# Altium footprint library QUTMS_SwitchLibrary.PcbLib: 6 footprints
Each footprint in its own frame and in the unit in brackets; x right, y up, seen from the top. Pads: shape width x height; smd on the part's side, far side on the other; paste and mask are expansions set on the pad; w line width, h text height; cw(c..) or ccw(c..) is an arc to the next point about the centre after c.
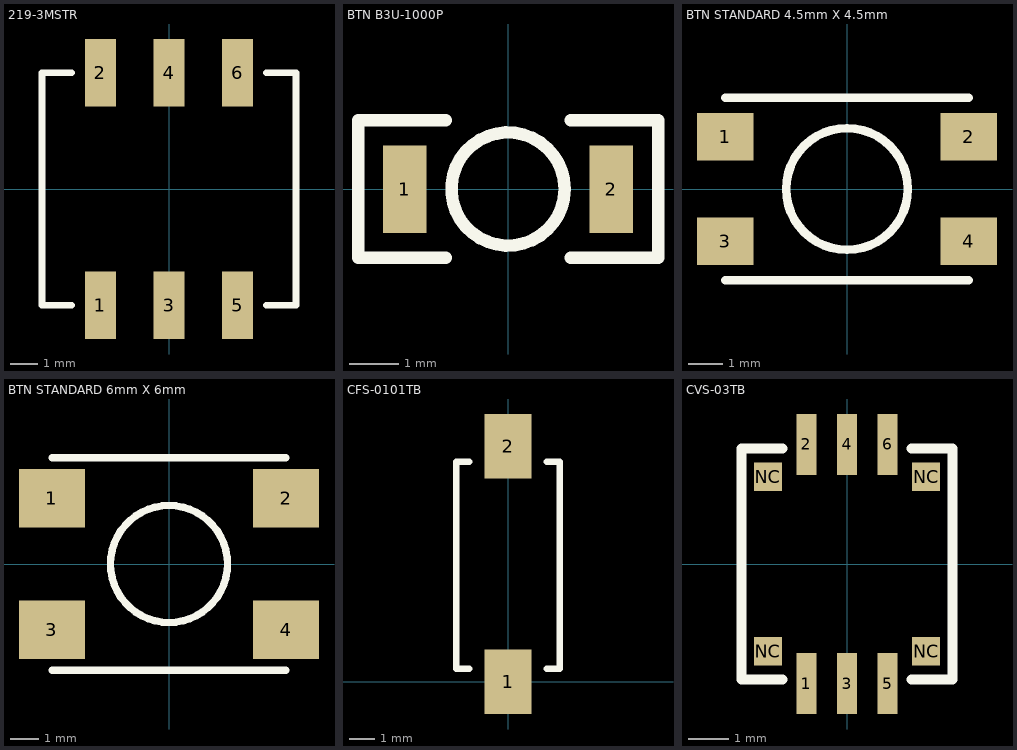
[diagram p0: the footprints below, top view; thin cyan lines are the x and y axes]

## 219-3MSTR [mm]
pads (6):
  rect 1.15x2.5 smd: 1(-2.54,-4.3) 2(-2.54,4.3) 3(0,-4.3) 4(0,4.3) 5(2.54,-4.3) 6(2.54,4.3)
Top Overlay:
  lines w0.254: -3.6,-4.3 -4.7,-4.3 -4.7,4.3 -3.6,4.3 ; 3.6,-4.3 4.7,-4.3 4.7,4.3 3.6,4.3
3D body "219-3poles.stp": height 4.28, standoff -0.02, extent -4.545,-4.955 4.545,4.955

## BTN B3U-1000P [mil] "OMRON B3U-1000P"
pads (2):
  rect 35x70 smd: 1(-82.68,0) 2(82.68,0)
Top Overlay:
  circle w10: c0,0 r45.28
  lines w10: -50,-55 -120,-55 -120,55 -50,55 ; 50,-55 120,-55 120,55 50,55
3D body "B3U_1000P.step": height 62.99, standoff 0, extent -78.74,-49.21 78.74,49.22

## BTN STANDARD 4.5mm X 4.5mm [mil]
pads (4):
  rect 65x55 smd: 1(-140,60) 2(140,60) 3(-140,-60) 4(140,-60)
Top Overlay:
  circle w10: c0,0 r70
  lines w10: -140,-105 140,-105 ; -140,105 140,105
3D body "Tact Switch 4.5mm SMT.step": height 165.35, standoff 0, extent -147.64,-88.58 147.64,88.59

## BTN STANDARD 6mm X 6mm [mil]
pads (4):
  rect 90x80 smd: 1(-160,90) 2(160,90) 3(-160,-90) 4(160,-90)
Top Overlay:
  circle w10: c0,0 r80
  lines w10: -160,-145 160,-145 ; -160,145 160,145
3D body "Tactal Switch - SMD (6mmx 6mmx 5mm) - Marked.stp": height 196.85, standoff 0, extent -177.5,-118.75 177.5,118.75

## CFS-0101TB [mm]
pads (2):
  rect 1.8x2.5 smd: 1(0,0) 2(0,9.1)
Top Overlay:
  lines w0.254: -1.5,0.5 -2,0.5 -2,8.5 -1.5,8.5 ; 1.5,0.5 2,0.5 2,8.5 1.5,8.5

## CVS-03TB [mm]
pads (10):
  rect 0.5x1.5 smd: 1(-1,-2.95) 2(-1,2.95) 3(0,-2.95) 4(0,2.95) 5(1,-2.95) 6(1,2.95)
  rect 0.7x0.7 smd: NC(-1.95,-2.15) NC(-1.95,2.15) NC(1.95,-2.15) NC(1.95,2.15)
Top Overlay:
  lines w0.254: -1.6,-2.85 -2.6,-2.85 -2.6,2.85 -1.6,2.85 ; 1.6,-2.85 2.6,-2.85 2.6,2.85 1.6,2.85
3D body "CVS-03TB.stp": height 1.37, standoff -0.1, extent -2,-3.05 2,3.05